# EAGLE library part DS3231 (library DSPR)
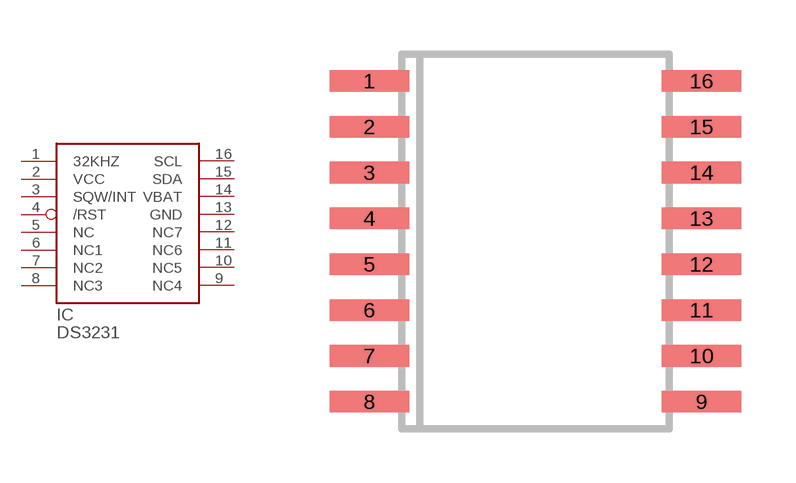
[diagram p2: symbol with the pads of SO16W; footprint SO16W]

Designator prefix IC

## DS3231/SO  [SO16W]
1  32KHZ  out
2  VCC  pwr
3  SQW/INT  out
4  /RST  pas
5  NC  nc
6  NC1  nc
7  NC2  nc
8  NC3  nc
9  NC4  nc
10  NC5  nc
11  NC6  nc
12  NC7  nc
13  GND  pwr
14  VBAT  pwr
15  SDA
16  SCL

## Footprint SO16W (pad centres in mm)
SMALL OUTLINE INTEGRATED CIRCUIT wide body 7.5 mm/JEDEC MS-013AA
smd 2.2 x 0.6: 1 -4.6,4.445; 2 -4.6,3.175; 3 -4.6,1.905; 4 -4.6,0.635; 5 -4.6,-0.635; 6 -4.6,-1.905; 7 -4.6,-3.175; 8 -4.6,-4.445; 9 4.6,-4.445; 10 4.6,-3.175; 11 4.6,-1.905; 12 4.6,-0.635; 13 4.6,0.635; 14 4.6,1.905; 15 4.6,3.175; 16 4.6,4.445